# EAGLE library part BCR401U (library KW2)
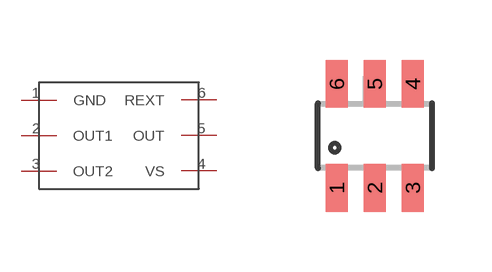
[diagram p18: symbol with the pads of SOT23-6; footprint SOT23-6]

Designator prefix X

## BCR401U  [SOT23-6]
1  GND
2  OUT1
3  OUT2
4  VS
5  OUT
6  REXT

## Footprint SOT23-6 (pad centres in mm)
smd 0.55 x 1.2: 1 -0.95,-1.3; 2 0,-1.3; 3 0.95,-1.3; 4 0.95,1.3; 5 0,1.3; 6 -0.95,1.3